# EAGLE library part P_USB_MINI (library devon)
MINI USB Connector Source: http://www.hirose.co.jp/cataloge_hp/e24000019.pdf
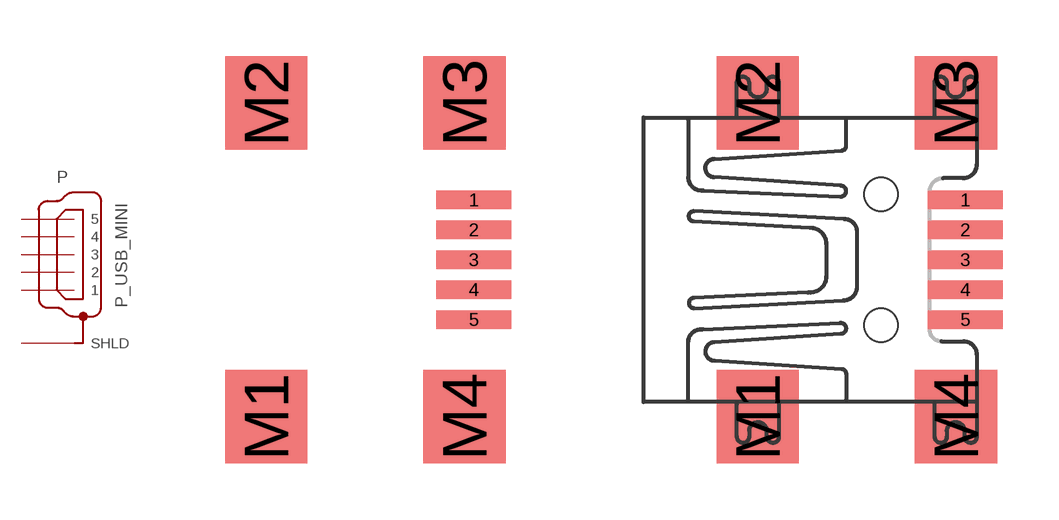
[diagram p5: symbol with the pads of UX60A-MB-5ST; footprints UX60A-MB-5ST, UX60-MB-5ST]

Designator prefix P

## P_USB_MINIUX60A-MB-5ST (OC_FARNELL: unknown; OC_NEWARK: unknown)  [UX60A-MB-5ST]
1  5  in
2  4  in
3  3  in
4  2  in
5  1  in
M1  SHLD
M2  SHLD
M3  SHLD
M4  SHLD

## P_USB_MINIUX60-MB-5ST (OC_FARNELL: unknown; OC_NEWARK: unknown)  [UX60-MB-5ST]
1  1  in
2  2  in
3  3  in
4  4  in
5  5  in
M1  SHLD
M2  SHLD
M3  SHLD
M4  SHLD

## Footprint UX60A-MB-5ST (pad centres in mm)
MINI USB Connector HI-SPEED Certified Metal Shield SMT Type Without Positioning Post Source: http://www.hirose.co.jp/cataloge_hp/e24000019.pdf
smd 2 x 0.5: 1 2.25,1.6; 2 2.25,0.8; 3 2.25,0; 4 2.25,-0.8; 5 2.25,-1.6
smd 2.2 x 2.5: M1 -3.3,-4.2; M2 -3.3,4.2; M3 2,4.2; M4 2,-4.2

## Footprint UX60-MB-5ST (pad centres in mm)
MINI USB Connector HI-SPEED Certified Metal Shield SMT Type With Positioning Post Source: http://www.hirose.co.jp/cataloge_hp/e24000019.pdf
smd 2 x 0.5: 1 2.25,1.6; 2 2.25,0.8; 3 2.25,0; 4 2.25,-0.8; 5 2.25,-1.6
smd 2.2 x 2.5: M1 -3.3,-4.2; M2 -3.3,4.2; M3 2,4.2; M4 2,-4.2
hole 0.9 at 0,-1.75
hole 0.9 at 0,1.75